# EAGLE library part MMA7260 (library paparazzi3)
3 axis accelerometer
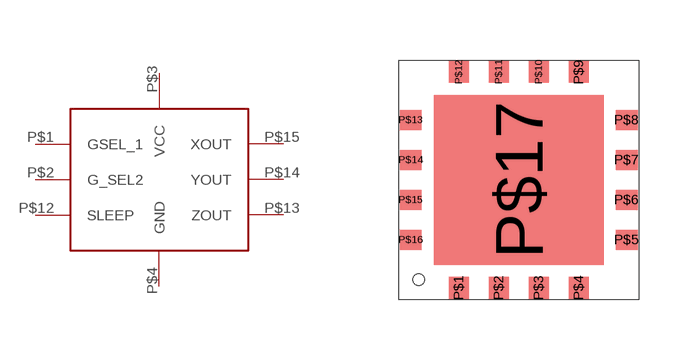
[diagram p34: symbol with the pads of CASE162201; footprint CASE162201]

Designator prefix -

## MMA7260  [CASE162201]
P$1  GSEL_1
P$2  G_SEL2
P$3  VCC
P$4  GND
P$12  SLEEP
P$13  ZOUT
P$14  YOUT
P$15  XOUT

## Footprint CASE162201 (pad centres in mm)
smd 0.5 x 0.55: P$1 -1.5,-2.7; P$2 -0.5,-2.7; P$3 0.5,-2.7; P$4 1.5,-2.7; P$9 1.5,2.7; P$10 0.5,2.7; P$11 -0.5,2.7; P$12 -1.5,2.7
smd 0.55 x 0.5: P$5 2.7,-1.5; P$6 2.7,-0.5; P$7 2.7,0.5; P$8 2.7,1.5; P$13 -2.7,1.5; P$14 -2.7,0.5; P$15 -2.7,-0.5; P$16 -2.7,-1.5
smd 4.25 x 4.25: P$17 0,0